# Altium footprint library WPME-FISM.PcbLib: 13 footprints
Each footprint in its own frame and in the unit in brackets; x right, y up, seen from the top. Pads: shape width x height; smd on the part's side, far side on the other; paste and mask are expansions set on the pad; w line width, h text height; cw(c..) or ccw(c..) is an arc to the next point about the centre after c.
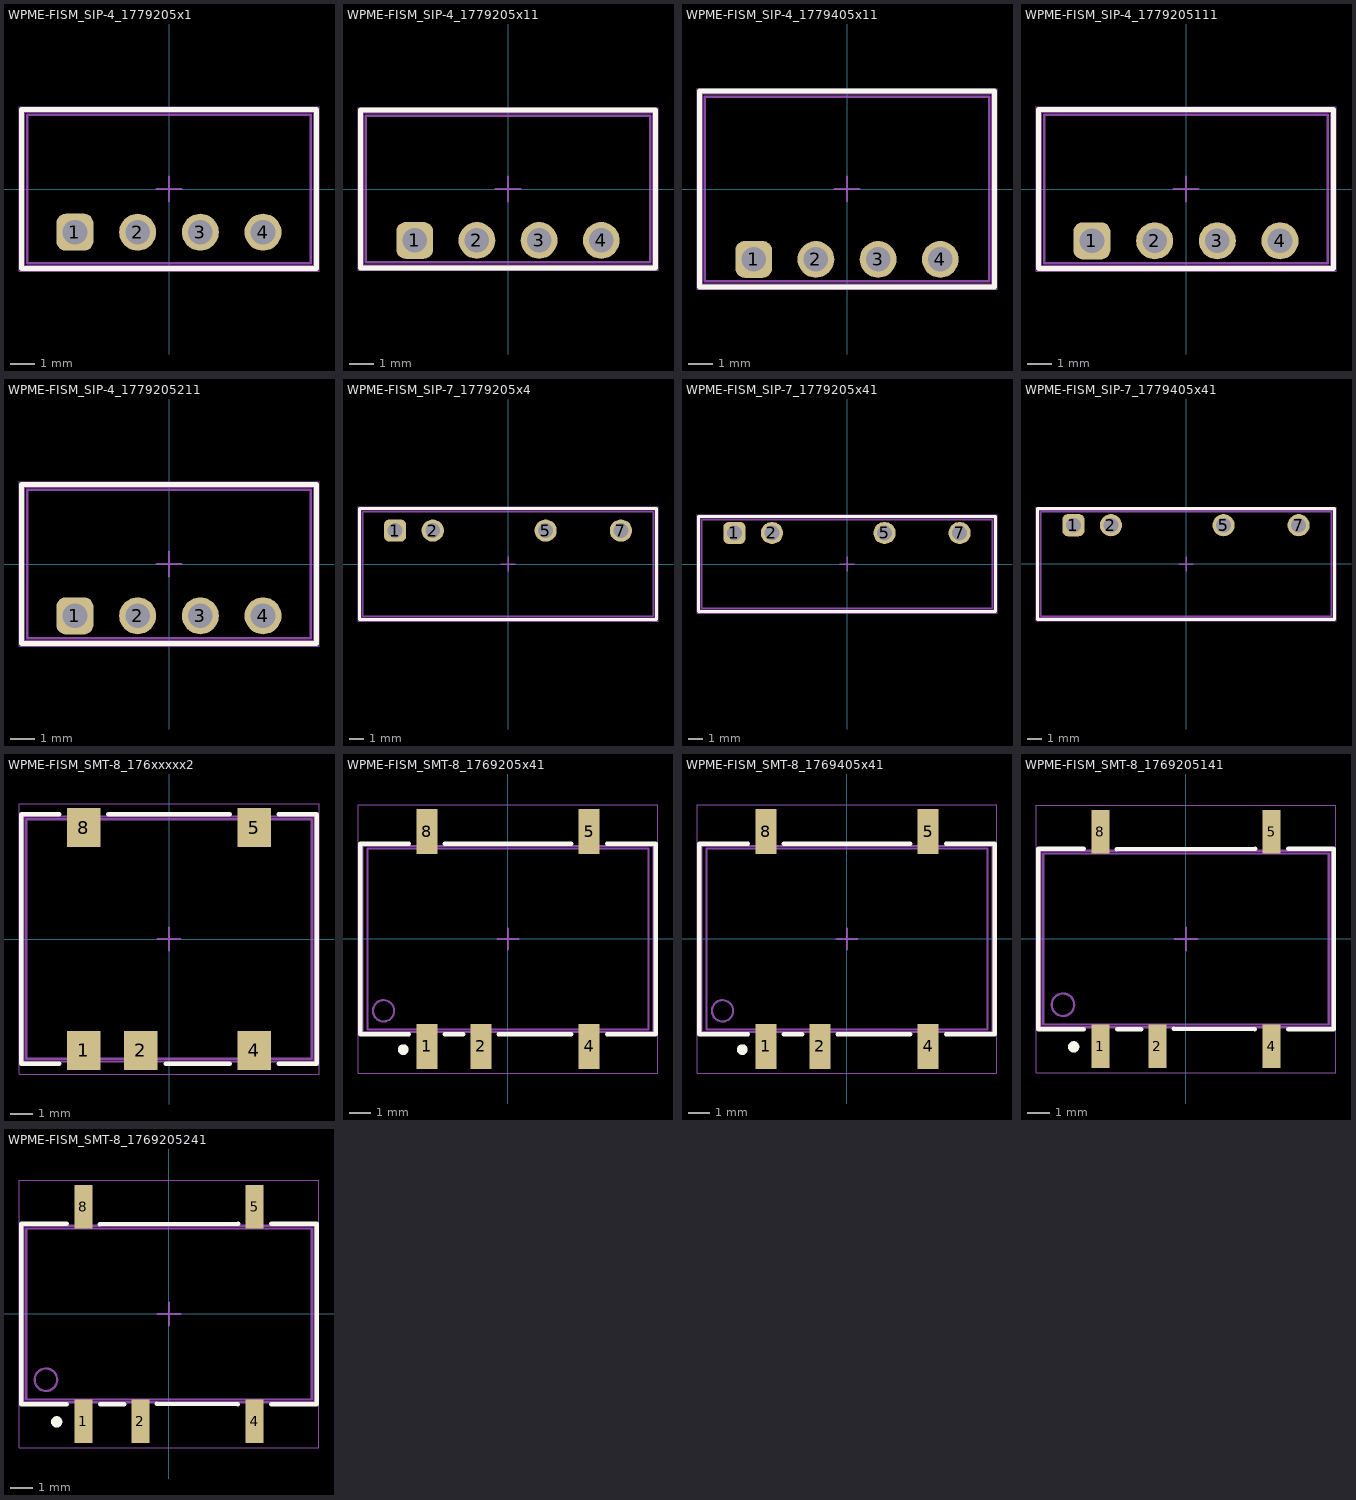
[diagram p0: the footprints below, top view; thin cyan lines are the x and y axes]

## WPME-FISM_SIP-4_1779205x1 [mm] "Fixed Isolated Module, SIP-4, body 11.50 x 6.00 mm"
height 10
pads (4):
  rrect50% 1.5x1.5 hole 1: 1(-3.81,-1.75)
  round 1.5 hole 1: 2(-1.27,-1.75) 3(1.27,-1.75) 4(3.81,-1.75)
Top Overlay:
  lines w0.2: -5.975,-3.225 5.975,-3.225 5.975,3.225 -5.975,3.225 -5.975,-3.225
Top Assembly:
  lines w0.1: -5.875,-3.125 -5.875,3.125 5.875,3.125 5.875,-3.125 -5.875,-3.125
Top Designator:
  text ".Designator" at -3.647,-0.357 h1
Top 3D Body:
  lines w0.1: -5.75,-3 5.75,-3 5.75,3 -5.75,3 -5.75,-3
Top Courtyard:
  lines w0.05: -6.075,-3.325 -6.075,3.325 6.075,3.325 6.075,-3.325 -6.075,-3.325
Top Component Center:
  lines w0.1: -0.5,0 0.5,0 ; 0,-0.5 0,0.5
3D body "1779205x1.stp": height 10.05, standoff -4.05, extent -5.75,-3 5.75,3

## WPME-FISM_SIP-4_1779205x11 [mm] "Fixed Isolated Module, SIP-4, body 11.60 x 6.00mm"
height 10.16
pads (4):
  rrect50% 1.5x1.5 hole 1: 1(-3.81,-2.1)
  round 1.5 hole 1: 2(-1.27,-2.1) 3(1.27,-2.1) 4(3.81,-2.1)
Top Overlay:
  lines w0.2: -6.025,-3.225 6.025,-3.225 6.025,3.225 -6.025,3.225 -6.025,-3.225
Top Assembly:
  lines w0.1: -5.925,-3.125 -5.925,3.125 5.925,3.125 5.925,-3.125 -5.925,-3.125
Top Designator:
  text ".Designator" at -3.647,-0.357 h1
Top 3D Body:
  lines w0.1: -5.8,-3 5.8,-3 5.8,3 -5.8,3 -5.8,-3
Top Courtyard:
  lines w0.05: -6.125,-3.325 -6.125,3.325 6.125,3.325 6.125,-3.325 -6.125,-3.325
Top Component Center:
  lines w0.1: -0.5,0 0.5,0 ; 0,-0.5 0,0.5
3D body "Download_STP_WPME-FISM-SIP-4_1779205311 (rev1).stp": height 10.21, standoff -4.05, extent -5.8,-3 5.8,3

## WPME-FISM_SIP-4_1779405x11 [mm] "Power Module, SIP-4, body 11.60 x 7.55 mm"
height 10.16
pads (4):
  rrect50% 1.5x1.5 hole 1 paste-0.1: 1(-3.81,-2.875)
  round 1.5 hole 1 paste-0.1: 2(-1.27,-2.875) 3(1.27,-2.875) 4(3.81,-2.875)
Top Overlay:
  lines w0.2: -6.025,-4 6.025,-4 6.025,4 -6.025,4 -6.025,-4
Top Assembly:
  lines w0.1: -5.925,-3.9 5.925,-3.9 5.925,3.9 -5.925,3.9 -5.925,-3.9
Top Designator:
  text ".Designator" at -3.647,-0.357 h1
Top 3D Body:
  lines w0.1: -5.8,-3.775 5.8,-3.775 5.8,3.775 -5.8,3.775 -5.8,-3.775
Top Courtyard:
  lines w0.05: -6.125,-4.1 6.125,-4.1 6.125,4.1 -6.125,4.1 -6.125,-4.1
Top Component Center:
  lines w0.1: -0.5,0 0.5,0 ; 0,-0.5 0,0.5
3D body "Download_STP_1779405211 (rev1).stp": height 10.18, standoff -4.08, extent -5.8,-3.775 5.8,3.775

## WPME-FISM_SIP-4_1779205111 [mm] "Fixed Isolated Module, SIP-4, body 11.50 x 6.00 mm"
height 10
pads (4):
  rrect50% 1.5x1.5 hole 1: 1(-3.81,-2.1)
  round 1.5 hole 1: 2(-1.27,-2.1) 3(1.27,-2.1) 4(3.81,-2.1)
Top Overlay:
  lines w0.2: -5.975,-3.225 5.975,-3.225 5.975,3.225 -5.975,3.225 -5.975,-3.225
Top Assembly:
  lines w0.1: -5.875,-3.125 5.875,-3.125 5.875,3.125 -5.875,3.125 -5.875,-3.125
Top Designator:
  text ".Designator" at -3.647,-0.357 h1
Top 3D Body:
  lines w0.1: -5.75,-3 5.75,-3 5.75,3 -5.75,3 -5.75,-3
Top Courtyard:
  lines w0.05: -6.075,-3.325 6.075,-3.325 6.075,3.325 -6.075,3.325 -6.075,-3.325
Top Component Center:
  lines w0.1: -0.5,0 0.5,0 ; 0,-0.5 0,0.5
3D body "Download_STP_WPME-FISM-SIP-4_1779205111 (rev1).stp": height 10.21, standoff -4.05, extent -5.8,-3 5.8,3

## WPME-FISM_SIP-4_1779205211 [mm] "Fixed Isolated Module, SIP-4, body 11.50 x 6.00 mm"
height 10
pads (4):
  rrect50% 1.5x1.5 hole 1: 1(-3.81,-2.1)
  round 1.5 hole 1: 2(-1.27,-2.1) 3(1.27,-2.1) 4(3.81,-2.1)
Top Overlay:
  lines w0.2: -5.975,-3.225 5.975,-3.225 5.975,3.225 -5.975,3.225 -5.975,-3.225
Top Assembly:
  lines w0.1: -5.875,-3.125 5.875,-3.125 5.875,3.125 -5.875,3.125 -5.875,-3.125
Top Designator:
  text ".Designator" at -3.647,-0.357 h1
Top 3D Body:
  lines w0.1: -5.75,-3 5.75,-3 5.75,3 -5.75,3 -5.75,-3
Top Courtyard:
  lines w0.05: -6.075,-3.325 6.075,-3.325 6.075,3.325 -6.075,3.325 -6.075,-3.325
Top Component Center:
  lines w0.1: -0.5,0 0.5,0 ; 0,-0.5 0,0.5
3D body "Download_STP_WPME-FISM-SIP-4_1779205211_rev1.stp": height 10.21, standoff -4.05, extent -5.8,-3 5.8,3

## WPME-FISM_SIP-7_1779205x4 [mm] "Fixed Isolated Module, SIP-7, body 19.60 x 7.05 mm"
height 10.2
pads (4):
  rrect50% 1.5x1.5 hole 1: 1(-7.62,2.255)
  round 1.5 hole 1: 2(-5.08,2.255) 5(2.54,2.255) 7(7.62,2.255)
Top Overlay:
  lines w0.2: -10.025,-3.75 -10.025,3.75 10.025,3.75 10.025,-3.75 -10.025,-3.75
Top Assembly:
  lines w0.1: -9.925,-3.65 -9.925,3.65 9.925,3.65 9.925,-3.65 -9.925,-3.65
Top Designator:
  text ".Designator" at -3.647,-0.357 h1
Top 3D Body:
  lines w0.1: -9.8,-3.525 -9.8,3.525 9.8,3.525 9.8,-3.525 -9.8,-3.525
Top Courtyard:
  lines w0.05: -10.125,-3.85 -10.125,3.85 10.125,3.85 10.125,-3.85 -10.125,-3.85
Top Component Center:
  lines w0.1: -0.5,0 0.5,0 ; 0,-0.5 0,0.5
3D body "1779205x4.stp": height 10.25, standoff -4.05, extent -9.8,-3.525 9.8,3.525

## WPME-FISM_SIP-7_1779205x41 [mm] "Fixed Isolated Module, SIP-7, body 19.65 x 6.00 mm"
height 10.16
pads (4):
  rrect50% 1.5x1.5 hole 1: 1(-7.62,2.1)
  round 1.5 hole 1: 2(-5.08,2.1) 5(2.54,2.1) 7(7.62,2.1)
Top Overlay:
  lines w0.2: -10.05,-3.225 10.05,-3.225 10.05,3.225 -10.05,3.225 -10.05,-3.225
Top Assembly:
  lines w0.1: -9.95,-3.125 9.95,-3.125 9.95,3.125 -9.95,3.125 -9.95,-3.125
Top Designator:
  text ".Designator" at -3.647,-0.357 h1
Top 3D Body:
  lines w0.1: -9.825,-3 9.825,-3 9.825,3 -9.825,3 -9.825,-3
Top Courtyard:
  lines w0.05: -10.15,-3.325 10.15,-3.325 10.15,3.325 -10.15,3.325 -10.15,-3.325
Top Component Center:
  lines w0.1: -0.5,0 0.5,0 ; 0,-0.5 0,0.5
3D body "Download_STP_WPME-FISM-SIP-7_1779205341_rev1.stp": height 10.21, standoff -4.05, extent -9.825,-3 9.825,3

## WPME-FISM_SIP-7_1779405x41 [mm] "Fixed Isolated Module, SIP-7, body 19.65 x 7.05 mm"
height 10.16
pads (4):
  rrect50% 1.5x1.5 hole 1: 1(-7.62,2.625)
  round 1.5 hole 1: 2(-5.08,2.625) 5(2.54,2.625) 7(7.62,2.625)
Top Overlay:
  lines w0.2: -10.05,-3.75 10.05,-3.75 10.05,3.75 -10.05,3.75 -10.05,-3.75
Top Assembly:
  lines w0.1: -9.95,-3.65 9.95,-3.65 9.95,3.65 -9.95,3.65 -9.95,-3.65
Top Designator:
  text ".Designator" at -3.647,-0.357 h1
Top 3D Body:
  lines w0.1: -9.825,-3.525 -9.825,3.525 9.825,3.525 9.825,-3.525 -9.825,-3.525
Top Courtyard:
  lines w0.05: -10.15,-3.85 -10.15,3.85 10.15,3.85 10.15,-3.85 -10.15,-3.85
Top Component Center:
  lines w0.1: -0.5,0 0.5,0 ; 0,-0.5 0,0.5
3D body "Download_STP_1779405241_rev1.stp": height 10.21, standoff -4.05, extent -9.825,-3.525 9.825,3.525

## WPME-FISM_SMT-8_176xxxxx2 [mm] "Fixed Isolated Module, SMT-8, body 12.75 x 10.70 mm"
height 6.95
pads (5):
  rect 1.5x1.75 smd paste-2539.97: 1(-3.81,-4.975) 2(-1.27,-4.975) 4(3.81,-4.975) 5(3.81,4.975) 8(-3.81,4.975)
Top Overlay:
  lines w0.2: -4.9,-5.575 -6.6,-5.575 -6.6,5.575 -4.9,5.575 ; -2.72,5.575 2.72,5.575 ; -0.15,-5.575 2.72,-5.575 ; 4.9,-5.575 6.6,-5.575 6.6,5.575 4.9,5.575
Top Paste:
  region: -4.46,-4.2 -3.16,-4.2 -3.16,-5.75 -4.46,-5.75
  region: -1.92,-4.2 -0.62,-4.2 -0.62,-5.75 -1.92,-5.75
  region: 3.16,-4.2 4.46,-4.2 4.46,-5.75 3.16,-5.75
  region: 3.16,5.75 4.46,5.75 4.46,4.2 3.16,4.2
  region: -4.46,5.75 -3.16,5.75 -3.16,4.2 -4.46,4.2
Top Assembly:
  lines w0.1: -6.5,-5.475 -6.5,5.475 6.5,5.475 6.5,-5.475 -6.5,-5.475
Top Designator:
  text ".Designator" at -3.647,-0.357 h1
Top 3D Body:
  lines w0.1: -6.375,-5.35 -6.375,5.35 6.375,5.35 6.375,-5.35 -6.375,-5.35
Top Courtyard:
  lines w0.05: -6.7,-6.05 -6.7,6.05 6.7,6.05 6.7,-6.05 -6.7,-6.05
Top Component Center:
  lines w0.1: -0.5,0 0.5,0 ; 0,-0.5 0,0.5
3D body "FISM_SMT-8.stp": height 6.95, standoff 0, extent -6.336,-5.575 6.414,5.525

## WPME-FISM_SMT-8_1769205x41 [mm] "Power Module, SMT, body 13.20 x 8.50 mm"
height 7.25
pads (5):
  rect 1x2.1 smd: 1(-3.81,-5.05) 2(-1.27,-5.05) 4(3.81,-5.05) 5(3.81,5.05) 8(-3.81,5.05)
Top Overlay:
  circle w0.25: c-4.925,-5.2 r0.125
  lines w0.2: -4.65,-4.475 -6.95,-4.475 -6.95,4.475 -4.65,4.475 ; -2.97,-4.475 -2.1,-4.475 ; -2.97,4.475 2.97,4.475 ; -0.45,-4.475 2.97,-4.475 ; 4.65,-4.475 6.95,-4.475 6.95,4.475 4.65,4.475
Top Assembly:
  circle w0.1: c-5.85,-3.375 r0.5
  lines w0.1: -6.85,-4.375 6.85,-4.375 6.85,4.375 -6.85,4.375 -6.85,-4.375
Top Designator:
  text ".Designator" at -3.647,-0.357 h1
Top 3D Body:
  lines w0.1: -6.6,-4.25 -6.6,4.25 6.6,4.25 6.6,-4.25 -6.6,-4.25
Top Courtyard:
  lines w0.05: -7.05,-6.3 -7.05,6.3 7.05,6.3 7.05,-6.3 -7.05,-6.3
Top Component Center:
  lines w0.1: -0.5,0 0.5,0 ; 0,-0.5 0,0.5
3D body "1769205141.stp": height 7.25, standoff 0, extent -6.6,-5.702 6.6,5.702

## WPME-FISM_SMT-8_1769405x41 [mm] "Power Module, SMT, body 13.20 x 8.50 mm"
height 7.25
pads (5):
  rect 1x2.1 smd: 1(-3.81,-5.05) 2(-1.27,-5.05) 4(3.81,-5.05) 5(3.81,5.05) 8(-3.81,5.05)
Top Overlay:
  circle w0.25: c-4.925,-5.2 r0.125
  lines w0.2: -4.65,-4.475 -6.95,-4.475 -6.95,4.475 -4.65,4.475 ; -2.97,-4.475 -2.1,-4.475 ; -2.97,4.475 2.97,4.475 ; -0.45,-4.475 2.97,-4.475 ; 4.65,-4.475 6.95,-4.475 6.95,4.475 4.65,4.475
Top Assembly:
  circle w0.1: c-5.85,-3.375 r0.5
  lines w0.1: -6.85,-4.375 6.85,-4.375 6.85,4.375 -6.85,4.375 -6.85,-4.375
Top Designator:
  text ".Designator" at -3.647,-0.357 h1
Top 3D Body:
  lines w0.1: -6.6,-4.25 -6.6,4.25 6.6,4.25 6.6,-4.25 -6.6,-4.25
Top Courtyard:
  lines w0.05: -7.05,-6.3 -7.05,6.3 7.05,6.3 7.05,-6.3 -7.05,-6.3
Top Component Center:
  lines w0.1: -0.5,0 0.5,0 ; 0,-0.5 0,0.5
3D body "Download_STP_WPME-FISM-SMT-8_rev1 (1).stp": height 7.25, standoff 0, extent -6.6,-5.702 6.6,5.702

## WPME-FISM_SMT-8_1769205141 [mm] "Power Module, SMT, body 12.70 x 7.60 mm"
height 6.25
pads (5):
  rect 0.8x1.95 smd: 1(-3.81,-4.775) 2(-1.27,-4.775) 4(3.81,-4.775) 5(3.81,4.775) 8(-3.81,4.775)
Top Overlay:
  circle w0.25: c-5,-4.8 r0.125
  lines w0.2: -4.55,-4.025 -6.575,-4.025 -6.575,4.025 -4.55,4.025 ; -3.09,4 3.09,4.025 ; -3.07,-4.025 -2,-4.025 ; -0.55,-4 3.07,-4.025 ; 4.55,-4.025 6.575,-4.025 6.575,4.025 4.55,4.025
Top Assembly:
  circle w0.1: c-5.475,-2.925 r0.5
  lines w0.1: -6.475,-3.925 -6.475,3.925 6.475,3.925 6.475,-3.925 -6.475,-3.925
Top Designator:
  text ".Designator" at -3.647,-0.357 h1
Top 3D Body:
  lines w0.1: -6.35,-3.8 -6.35,3.8 6.35,3.8 6.35,-3.8 -6.35,-3.8
Top Courtyard:
  lines w0.05: -6.675,-5.95 6.675,-5.95 6.675,5.95 -6.675,5.95 -6.675,-5.95
Top Component Center:
  lines w0.1: -0.5,0 0.5,0 ; 0,-0.5 0,0.5
3D body "1769205141.stp": height 6.37, standoff 0.02, extent -6.35,-5.525 6.35,5.525

## WPME-FISM_SMT-8_1769205241 [mm] "Power Module, SMT, body 12.70 x 7.60 mm"
height 6.25
pads (5):
  rect 0.8x1.95 smd: 1(-3.81,-4.775) 2(-1.27,-4.775) 4(3.81,-4.775) 5(3.81,4.775) 8(-3.81,4.775)
Top Overlay:
  circle w0.25: c-5,-4.8 r0.125
  lines w0.2: -4.55,-4.025 -6.575,-4.025 -6.575,4.025 -4.55,4.025 ; -3.09,4 3.09,4.025 ; -3.07,-4.025 -2,-4.025 ; -0.55,-4 3.07,-4.025 ; 4.55,-4.025 6.575,-4.025 6.575,4.025 4.55,4.025
Top Assembly:
  circle w0.1: c-5.475,-2.925 r0.5
  lines w0.1: -6.475,-3.925 -6.475,3.925 6.475,3.925 6.475,-3.925 -6.475,-3.925
Top Designator:
  text ".Designator" at -3.647,-0.357 h1
Top 3D Body:
  lines w0.1: -6.35,-3.8 -6.35,3.8 6.35,3.8 6.35,-3.8 -6.35,-3.8
Top Courtyard:
  lines w0.05: -6.675,-5.95 6.675,-5.95 6.675,5.95 -6.675,5.95 -6.675,-5.95
Top Component Center:
  lines w0.1: -0.5,0 0.5,0 ; 0,-0.5 0,0.5
3D body "1769205241.stp": height 6.37, standoff 0.02, extent -6.35,-5.525 6.35,5.525